# Altium schematic symbol library TX2SA-12V-Z.SchLib: 1 symbol
Pins are listed as number, name and electrical type; pins without a type are passive.

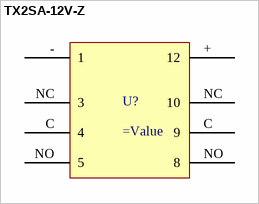
[diagram p0: symbol TX2SA-12V-Z]

## TX2SA-12V-Z
designator U?
pins: + 12, - 1, C 4, C 9, NC 3, NC 10, NO 5, NO 8